# EAGLE library part 6N137A-X001 (library DSX_Library)
Check prices <https://pricing.snapeda.com/parts/6N137A-X001/Vishay%20Semiconductor/view-part?ref=eda>
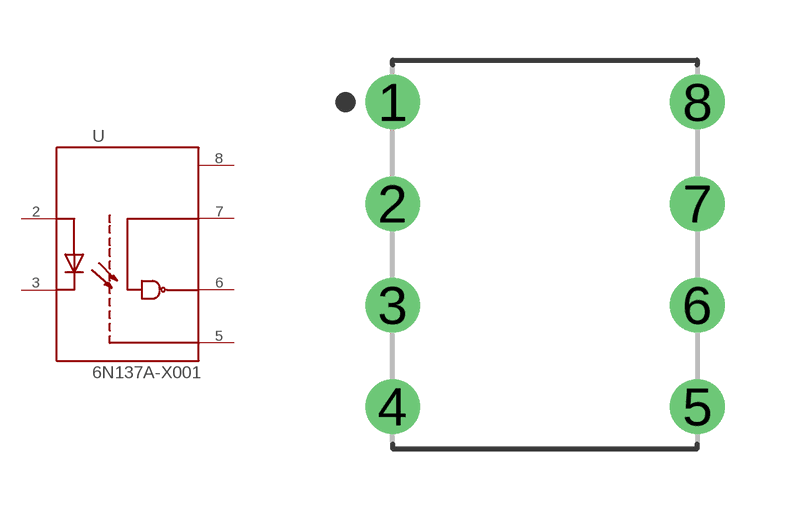
[diagram p0: symbol with the pads of DIP762W50P254L968H350Q8B; footprint DIP762W50P254L968H350Q8B]

Designator prefix U

## 6N137A-X001OPTO-8DIP-3D  [DIP762W50P254L968H350Q8B]
2  A  pas
3  C  pas
5  GND  pwr
6  VO  pas
7  VE  pas
8  VCC  pwr

## Footprint DIP762W50P254L968H350Q8B (pad centres in mm)
8-DIP, 2.54 mm (0.10 in) pitch, 7.62 mm (0.30 in) span, 9.68 X 7.62 X 3.50 mm body 8-pin DIP package with 2.54 mm (0.10 in) pitch, 7.62 mm (0.30 in) span with body size 9.68 X 7.62 X 3.50 mm
drill 0.764 pad 1.364: 1 -3.81,3.81; 2 -3.81,1.27; 3 -3.81,-1.27; 4 -3.81,-3.81; 5 3.81,-3.81; 6 3.81,-1.27; 7 3.81,1.27; 8 3.81,3.81